# EAGLE library part DAC2932 (library TI)
Dual 12 Bit 40MSPS Digital-to-Analog Converter Texas Instruments
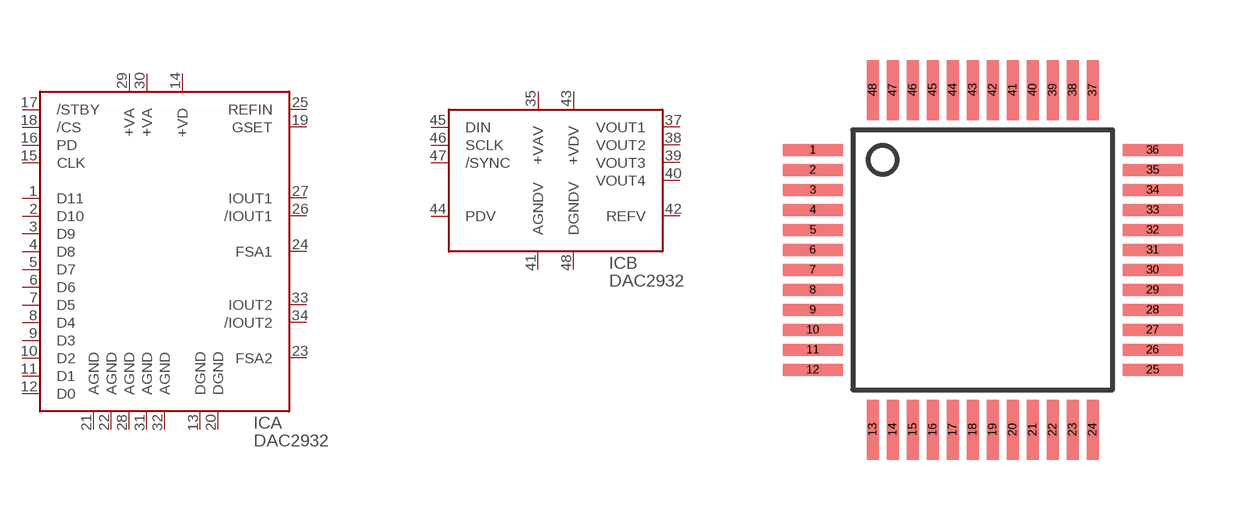
[diagram p1: symbol with the pads of TQFP48; footprint TQFP48]

Designator prefix IC; gates B=DAC2932-B A=DAC2932-A

## DAC2932PFB  [TQFP48]
1  A:D11
2  A:D10
3  A:D9
4  A:D8
5  A:D7
6  A:D6
7  A:D5
8  A:D4
9  A:D3
10  A:D2
11  A:D1
12  A:D0
13  A:DGND  pwr
14  A:+VD  pwr
15  A:CLK
16  A:PD
17  A:/STBY
18  A:/CS
19  A:GSET
20  A:DGND  pwr
21  A:AGND  pwr
22  A:AGND  pwr
23  A:FSA2
24  A:FSA1
25  A:REFIN
26  A:/IOUT1
27  A:IOUT1
28  A:AGND  pwr
29  A:+VA  pwr
30  A:+VA  pwr
31  A:AGND  pwr
32  A:AGND  pwr
33  A:IOUT2
34  A:/IOUT2
35  B:+VAV  pwr
37  B:VOUT1
38  B:VOUT2
39  B:VOUT3
40  B:VOUT4
41  B:AGNDV  pwr
42  B:REFV
43  B:+VDV  pwr
44  B:PDV
45  B:DIN
46  B:SCLK
47  B:/SYNC
48  B:DGNDV  pwr

## Footprint TQFP48 (pad centres in mm)
48 pin Plastic Quad Flat Pack, 0.5mm pitch
smd 1.5 x 0.3: 1 -4.25,2.75; 2 -4.25,2.25; 3 -4.25,1.75; 4 -4.25,1.25; 5 -4.25,0.75; 6 -4.25,0.25; 7 -4.25,-0.25; 8 -4.25,-0.75; 9 -4.25,-1.25; 10 -4.25,-1.75; 11 -4.25,-2.25; 12 -4.25,-2.75; 25 4.25,-2.75; 26 4.25,-2.25; 27 4.25,-1.75; 28 4.25,-1.25; 29 4.25,-0.75; 30 4.25,-0.25; 31 4.25,0.25; 32 4.25,0.75; 33 4.25,1.25; 34 4.25,1.75; 35 4.25,2.25; 36 4.25,2.75
smd 0.3 x 1.5: 13 -2.75,-4.25; 14 -2.25,-4.25; 15 -1.75,-4.25; 16 -1.25,-4.25; 17 -0.75,-4.25; 18 -0.25,-4.25; 19 0.25,-4.25; 20 0.75,-4.25; 21 1.25,-4.25; 22 1.75,-4.25; 23 2.25,-4.25; 24 2.75,-4.25; 37 2.75,4.25; 38 2.25,4.25; 39 1.75,4.25; 40 1.25,4.25; 41 0.75,4.25; 42 0.25,4.25; 43 -0.25,4.25; 44 -0.75,4.25; 45 -1.25,4.25; 46 -1.75,4.25; 47 -2.25,4.25; 48 -2.75,4.25